# Altium schematic symbol library IRFB4110PBF.Schlib: 1 symbol
Pins are listed as number, name and electrical type; pins without a type are passive.

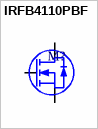
[diagram p0: symbol IRFB4110PBF]

## IRFB4110PBF
designator M?
100V 120A N-Channel
pins: 1 G, 2 D, 3 S